# Altium schematic symbol library 6-32_Screw.SchLib: 1 symbol
Pins are listed as number, name and electrical type; pins without a type are passive.

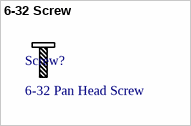
[diagram p0: symbol 6-32 Screw]

## 6-32 Screw
designator Screw?, comment 6-32 Pan Head Screw
MACHINE SCREW PAN PHILLIPS 6-32; Manufacturer Part Number: PMSSS6320050PH; Manufacturer: B&F Fastener; Head Height: 0.092" (2.34mm); Dynamic Catalog: Stainless Steel Screws; Kits: 1608-KIT-ND / - STAINLESS STL HARDWARE #6,#8,#10; Other Names: H711; Supplier 1: Digi-Key; Standard Package: 100; Family: Screws, Bolts; Type: Machine Screw; Screw Head Type: Pan Head; Drive Type: Phillips; Thread Size: 6-32; Length - Below Head: 0.500" (12.70mm) 1/2"; Length - Overall: 0.592" (15.04mm); Material: Stainless Steel; ComponentLink1URL: https://datasheet.ciiva.com/1034/machinepancombo-1034179.pdf; ComponentLink1Description: https://datasheet.ciiva.com/1034/machinepancombo-1034179.pdf; Supplier Part Number 1: H711-ND; Stock 1: 15276; Pricing 1: 100=0.0773, 1000=0.0618 (USD); Category: Hardware, Fasteners, Accessories